# Altium footprint library PCB11.PcbLib: 19 footprints (part 1 of 2)
Each footprint in its own frame and in the unit in brackets; x right, y up, seen from the top. Pads: shape width x height; smd on the part's side, far side on the other; paste and mask are expansions set on the pad; w line width, h text height; cw(c..) or ccw(c..) is an arc to the next point about the centre after c.
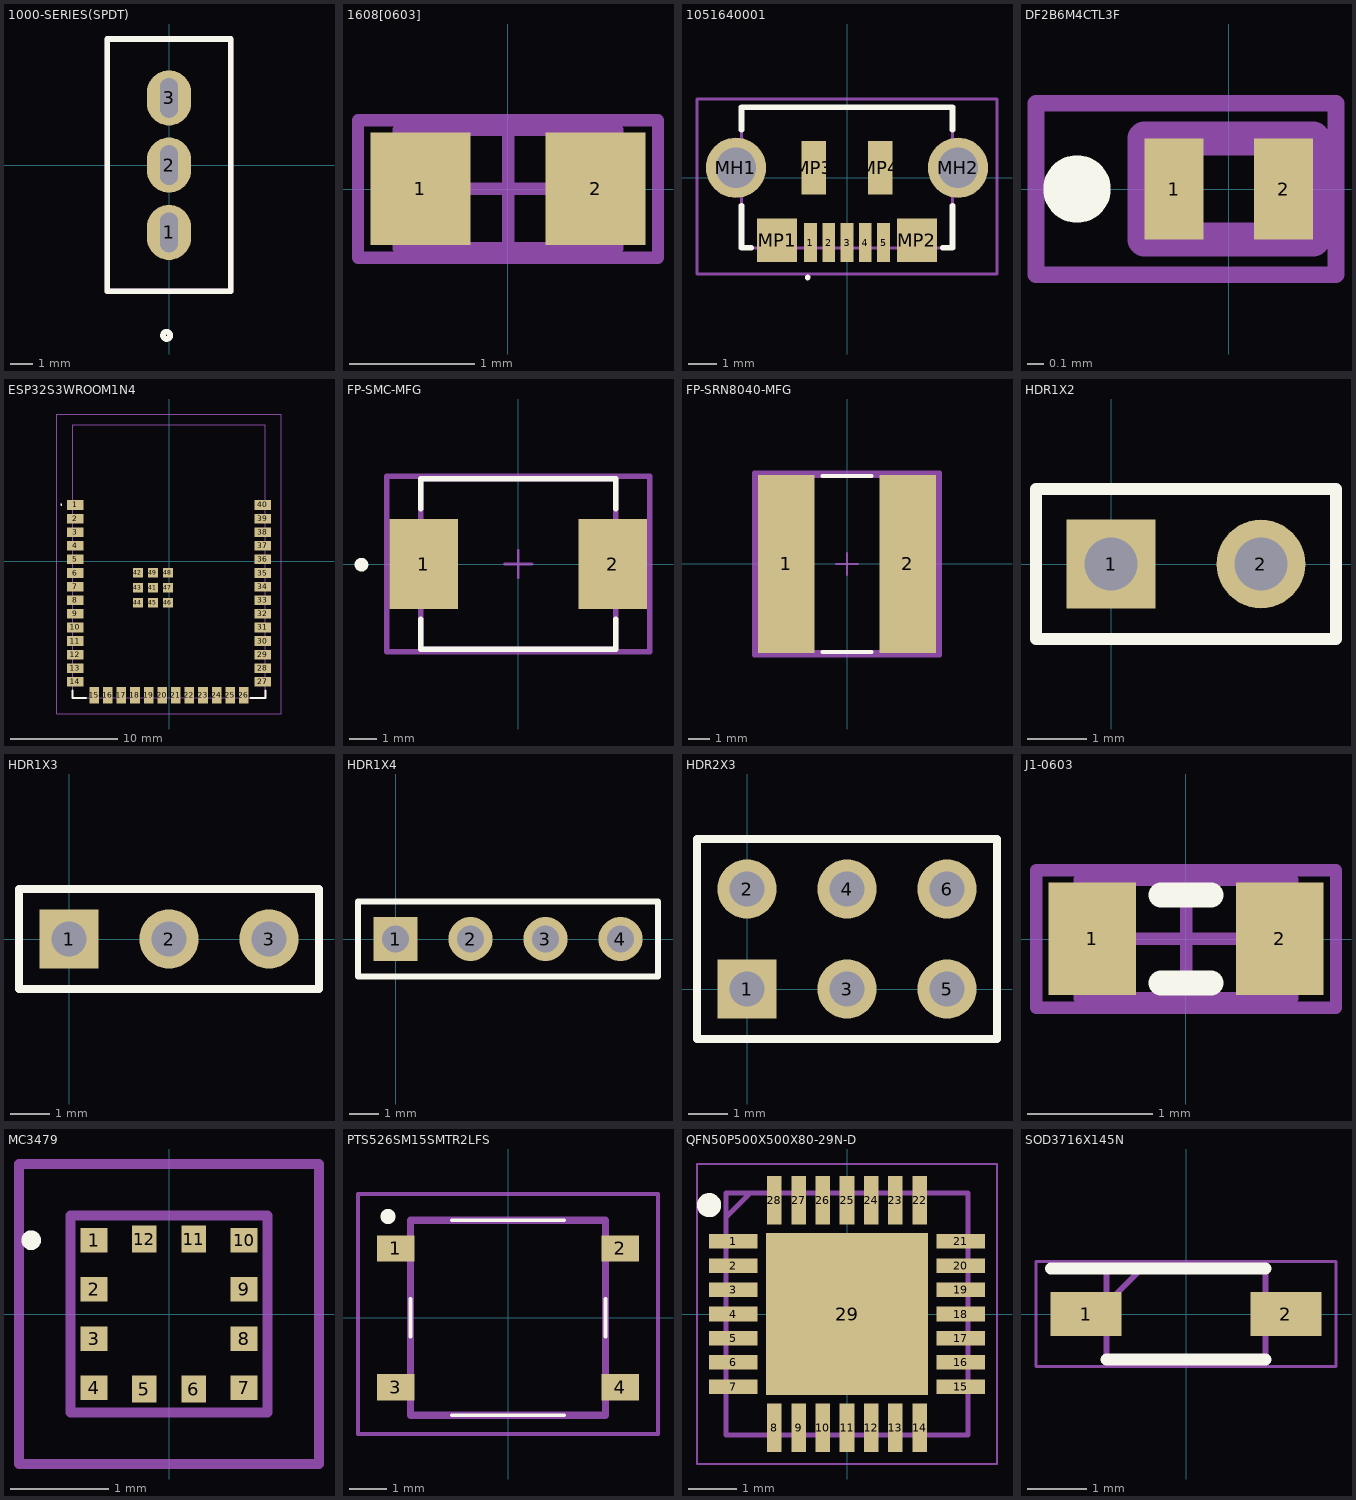
[diagram p0: the footprints below, top view; thin cyan lines are the x and y axes]

## 1000-SERIES(SPDT) [mm]
pads (3):
  oval 2x2.5 hole 0.8 slot 1.8 at 90 deg: 1(0,-3.048) 2(0,0) 3(0,3.048)
Top Overlay:
  circle w0.254: c-0.109,-7.714 r0.164
  lines w0.254: -2.794,-5.715 -2.794,5.715 2.794,5.715 2.794,-5.715 -2.794,-5.715
Mechanical 13:
  lines w0.254: -2.794,-5.715 2.794,-5.715 2.794,5.715 -2.794,5.715 -2.794,-5.715
3D body "SS12F15.stp": height 11, standoff -2.35, extent -2.9,-9.75 2.9,9.75

## 1608[0603] [mm] "Chip Capacitor, Body 1.6x0.8mm, IPC High Density"
height 1.3
pads (2):
  rect 0.8x0.9 smd: 1(-0.7,0) 2(0.7,0)
Mechanical 13:
  lines w0.1: -0.875,-0.475 -0.875,0.475 0.875,0.475 0.875,-0.475 -0.875,-0.475
Mechanical 15:
  lines w0.1: -0.475,0 0.475,0 ; 0,-0.475 0,0.475 ; -1.2,-0.55 -1.2,0.55 1.2,0.55 1.2,-0.55 -1.2,-0.55
3D body: height 1.3, standoff 0, extent -0.875,-0.475 0.875,0.475

## 1051640001 [mm]
pads (11):
  rect 0.45x1.38 smd: 1(-1.3,-2.31) 2(-0.65,-2.31) 3(0,-2.31) 4(0.65,-2.31) 5(1.3,-2.31)
  round 2.145 hole 1.43: MH1(-3.95,0.35) MH2(3.95,0.35)
  rect 1.425x1.55 smd: MP1(-2.487,-2.225) MP2(2.487,-2.225)
  rect 0.875x1.9 smd: MP3(-1.188,0.35) MP4(1.188,0.35)
Top Overlay:
  lines w0.1: -1.4,-3.6 ccw(c-1.4,-3.55) -1.4,-3.5 ; -1.397,-3.606 cw(c-1.397,-3.556) -1.397,-3.506
  lines w0.2: -3.75,-1 -3.75,-2.5 -3.4,-2.5 ; -3.75,1.7 -3.75,2.5 3.75,2.5 3.75,1.7 ; 3.4,-2.5 3.75,-2.5 3.75,-1
Mechanical 13:
  lines w0.1: -3.75,-2.5 3.75,-2.5 3.75,2.5 -3.75,2.5 -3.75,-2.5
Mechanical 15:
  lines w0.1: -5.334,-3.429 -5.334,2.794 5.334,2.794 5.334,-3.429 -5.334,-3.429
3D body "105164-0001.stp": height 2.51, standoff -0.74, extent -4.1,-2.61 4.1,2.54

## DF2B6M4CTL3F [mm]
pads (2):
  rect 0.35x0.6 smd: 1(-0.325,0) 2(0.325,0)
Top Overlay:
  lines w0.2: -1,0 ccw(c-0.9,0) -0.8,0 ccw(c-0.9,0) -1,0
Mechanical 13:
  lines w0.2: -0.5,-0.3 0.5,-0.3 0.5,0.3 -0.5,0.3 -0.5,-0.3
Mechanical 15:
  lines w0.1: -1.143,-0.508 0.635,-0.508 0.635,0.508 -1.143,0.508 -1.143,-0.508
3D body "DF2B6M4CT,L3F.stp": height 0.5, standoff 0, extent -0.5,-0.3 0.5,0.3

## ESP32S3WROOM1N4 [mm]
pads (49):
  rect 1.5x0.9 smd: 1(-8.75,5.26) 2(-8.75,3.99) 3(-8.75,2.72) 4(-8.75,1.45) 5(-8.75,0.18) 6(-8.75,-1.09) 7(-8.75,-2.36) 8(-8.75,-3.63) 9(-8.75,-4.9) 10(-8.75,-6.17) 11(-8.75,-7.44) 12(-8.75,-8.71) 13(-8.75,-9.98) 14(-8.75,-11.25) 27(8.75,-11.25) 28(8.75,-9.98) 29(8.75,-8.71) 30(8.75,-7.44) 31(8.75,-6.17) 32(8.75,-4.9) 33(8.75,-3.63) 34(8.75,-2.36) 35(8.75,-1.09) 36(8.75,0.18) 37(8.75,1.45) 38(8.75,2.72) 39(8.75,3.99) 40(8.75,5.26)
  rect 0.9x1.5 smd: 15(-6.985,-12.5) 16(-5.715,-12.5) 17(-4.445,-12.5) 18(-3.175,-12.5) 19(-1.905,-12.5) 20(-0.635,-12.5) 21(0.635,-12.5) 22(1.905,-12.5) 23(3.175,-12.5) 24(4.445,-12.5) 25(5.715,-12.5) 26(6.985,-12.5)
  rect 0.9x0.9 smd: 41(-1.5,-2.46) 42(-2.9,-1.06) 43(-2.9,-2.46) 44(-2.9,-3.86) 45(-1.5,-3.86) 46(-0.1,-3.86) 47(-0.1,-2.46) 48(-0.1,-1.06) 49(-1.5,-1.06)
Top Overlay:
  lines w0.1: -10.1,5.3 ccw(c-10.05,5.3) -10,5.3 ccw(c-10.05,5.3) -10.1,5.3
  lines w0.2: -9,-12.05 -9,-12.75 -7.765,-12.75 ; 7.635,-12.75 9,-12.75 9,-12.05
Mechanical 13:
  lines w0.1: -9,-12.75 -9,12.75 9,12.75 9,-12.75 -9,-12.75
Mechanical 15:
  lines w0.1: -10.5,-14.25 -10.5,13.75 10.5,13.75 10.5,-14.25 -10.5,-14.25
3D body "ESP32-S3-WROOM.step": height 3.11, standoff -0.05, extent -9.01,-12.76 9.01,12.75

## FP-SMC-MFG [mm]
pads (2):
  rect 2.5x3.3 smd paste+0 mask+0: 1(-3.45,0) 2(3.45,0)
Top Overlay:
  circle w0.25: c-5.725,-0.025 r0.125
  lines w0.2: -3.555,-2.025 -3.555,-3.11 3.555,-3.11 3.555,-2.025 ; -3.555,2.025 -3.555,3.11 3.555,3.11 3.555,2.025
Top 3D Body:
  lines w0.2: -3.555,-3.11 3.555,-3.11 3.555,3.11 -3.555,3.11 -3.555,-3.11
Top Courtyard:
  lines w0.2: -4.8,-3.21 4.8,-3.21 4.8,3.21 -4.8,3.21 -4.8,-3.21
Top Assembly:
  lines w0.2: -4.8,-3.21 4.8,-3.21 4.8,3.21 -4.8,3.21 -4.8,-3.21
  text ".Designator" at 0,0.188 h1
Top Component Center:
  lines w0.1: -0.5,0 0.5,0 ; 0,-0.5 0,0.5
3D body "Diode_Diodes_Inc_B340-13-F_eec.STEP": height 0.25, standoff 0, extent -4.8,-3.21 4.8,3.21

## FP-SRN8040-MFG [mm]
pads (2):
  rect 2.6x8.2 smd paste+0 mask+0: 1(-2.8,0) 2(2.8,0)
Top Overlay:
  lines w0.2: -1.125,-4.05 1.125,-4.05 ; -1.125,4.05 1.125,4.05
Top 3D Body:
  lines w0.2: -4.175,-4.05 -4.175,4.05 4.175,4.05 4.175,-4.05 -4.175,-4.05
Top Courtyard:
  lines w0.2: -4.275,-4.2 -4.275,4.2 4.275,4.2 4.275,-4.2 -4.275,-4.2
Top Assembly:
  lines w0.2: -4.275,-4.2 -4.275,4.2 4.275,4.2 4.275,-4.2 -4.275,-4.2
  text ".Designator" at 0,0.188 h1
Top Component Center:
  lines w0.1: -0.5,0 0.5,0 ; 0,-0.5 0,0.5
3D body "Ind_Bourns_Inc_SRN8040-1R0Y_eec.STEP": height 0.25, standoff 0, extent -4.275,-4.2 4.275,4.2

## HDR1X2 [mm] "Connector; Header; 2 Position"
pads (2):
  rect 1.5x1.5 hole 0.9: 1(0,0)
  round 1.5 hole 0.9: 2(2.54,0)
Top Overlay:
  lines w0.2: -1.27,-1.27 3.81,-1.27 3.81,1.27 -1.27,1.27 -1.27,-1.27

## HDR1X3 [mm] "Connector; Header; 3 Position"
pads (3):
  rect 1.5x1.5 hole 0.9: 1(0,0)
  round 1.5 hole 0.9: 2(2.54,0) 3(5.08,0)
Top Overlay:
  lines w0.2: -1.27,-1.27 6.35,-1.27 6.35,1.27 -1.27,1.27 -1.27,-1.27

## HDR1X4 [mm] "Connector; Header; 4 Position"
pads (4):
  rect 1.5x1.5 hole 0.9: 1(0,0)
  round 1.5 hole 0.9: 2(2.54,0) 3(5.08,0) 4(7.62,0)
Top Overlay:
  lines w0.2: -1.27,-1.27 8.89,-1.27 8.89,1.27 -1.27,1.27 -1.27,-1.27

## HDR2X3 [mm] "Connector; Header; 3x2 Position"
pads (6):
  rect 1.5x1.5 hole 0.9: 1(0,0)
  round 1.5 hole 0.9: 2(0,2.54) 3(2.54,0) 4(2.54,2.54) 5(5.08,0) 6(5.08,2.54)
Top Overlay:
  lines w0.2: 1.482,-1.27 6.35,-1.27 ; 6.35,-1.27 -1.27,-1.27 -1.27,3.81 6.35,3.81 6.35,-1.27

## J1-0603 [mm] "Chip Resistor, Body 1.6x0.8mm, IPC High Density"
height 0.9
pads (2):
  rect 0.7x0.9 smd: 1(-0.75,0) 2(0.75,0)
Top Overlay:
  lines w0.2: -0.2,-0.35 0.2,-0.35 ; -0.2,0.35 0.2,0.35
Mechanical 13:
  lines w0.1: -0.85,-0.475 -0.85,0.475 0.85,0.475 0.85,-0.475 -0.85,-0.475
Mechanical 15:
  lines w0.1: -0.475,0 0.475,0 ; 0,-0.475 0,0.475 ; -1.2,-0.55 -1.2,0.55 1.2,0.55 1.2,-0.55 -1.2,-0.55
3D body: height 0.9, standoff 0, extent -0.85,-0.475 0.85,0.475

## MC3479 [mm]
pads (12):
  rect 0.275x0.25 smd: 1(-0.762,0.75) 2(-0.762,0.25) 3(-0.762,-0.25) 4(-0.762,-0.75) 7(0.763,-0.75) 8(0.763,-0.25) 9(0.763,0.25) 10(0.763,0.75)
  rect 0.25x0.275 smd: 5(-0.25,-0.763) 6(0.25,-0.763) 11(0.25,0.762) 12(-0.25,0.762)
Top Overlay:
  lines w0.1: -1.4,0.7 ccw(c-1.4,0.75) -1.4,0.8 ccw(c-1.4,0.75) -1.4,0.7
Mechanical 13:
  lines w0.1: -1,-1 -1,1 1,1 1,-1 -1,-1
Mechanical 15:
  lines w0.1: -1.524,-1.524 -1.524,1.524 1.524,1.524 1.524,-1.524 -1.524,-1.524
3D body "LGA-12 2x2mm.step": height 0.94, standoff 0, extent -1,-1 1,1

## PTS526SM15SMTR2LFS [mm]
pads (4):
  rect 1x0.7 smd: 1(-3,1.85) 2(3,1.85) 3(-3,-1.85) 4(3,-1.85)
Top Overlay:
  lines w0.1: -2.6,-0.5 -2.6,0.5 ; -1.5,-2.6 1.5,-2.6 ; -1.5,2.6 1.5,2.6 ; 2.6,-0.5 2.6,0.5
  lines w0.2: -3.2,2.6 ccw(c-3.2,2.7) -3.2,2.8 ccw(c-3.2,2.7) -3.2,2.6
Mechanical 13:
  lines w0.2: -2.6,-2.6 -2.6,2.6 2.6,2.6 2.6,-2.6 -2.6,-2.6
Mechanical 15:
  lines w0.1: -4,-3.1 -4,3.3 4,3.3 4,-3.1 -4,-3.1
3D body "PTS526_SM15_SMTR2_LFS.stp": height 1.55, standoff 0, extent -3.2,-2.6 3.2,2.6

## QFN50P500X500X80-29N-D [mm]
pads (29):
  rect 1x0.3 smd: 1(-2.35,1.5) 2(-2.35,1) 3(-2.35,0.5) 4(-2.35,0) 5(-2.35,-0.5) 6(-2.35,-1) 7(-2.35,-1.5) 15(2.35,-1.5) 16(2.35,-1) 17(2.35,-0.5) 18(2.35,0) 19(2.35,0.5) 20(2.35,1) 21(2.35,1.5)
  rect 0.3x1 smd: 8(-1.5,-2.35) 9(-1,-2.35) 10(-0.5,-2.35) 11(0,-2.35) 12(0.5,-2.35) 13(1,-2.35) 14(1.5,-2.35) 22(1.5,2.35) 23(1,2.35) 24(0.5,2.35) 25(0,2.35) 26(-0.5,2.35) 27(-1,2.35) 28(-1.5,2.35)
  rect 3.35x3.35 smd: 29(0,0)
Top Overlay:
  circle w0.25: c-2.85,2.25 r0.125
Mechanical 13:
  lines w0.1: -2.5,2 -2,2.5 ; -2.5,-2.5 -2.5,2.5 2.5,2.5 2.5,-2.5 -2.5,-2.5
Mechanical 15:
  lines w0.05: -3.1,-3.1 -3.1,3.1 3.1,3.1 3.1,-3.1 -3.1,-3.1
3D body "CP2102N-A02-GQFN28.stp": height 0.8, standoff 0, extent -2.55,-2.55 2.55,2.55

## SOD3716X145N [mm]
pads (2):
  rect 1.2x0.75 smd: 1(-1.7,0) 2(1.7,0)
Top Overlay:
  lines w0.2: -2.3,0.775 1.35,0.775 ; -1.35,-0.775 1.35,-0.775
Mechanical 13:
  lines w0.1: -1.35,0.175 -0.75,0.775 ; -1.35,-0.775 -1.35,0.775 1.35,0.775 1.35,-0.775 -1.35,-0.775
Mechanical 15:
  lines w0.05: -2.55,-0.889 -2.55,0.889 2.55,0.889 2.55,-0.889 -2.55,-0.889
3D body "1N5819HW-7-F.stp": height 1.45, standoff 0, extent -1.85,-0.775 1.85,0.775